# Altium integrated library RCU-0C.IntLib: 1 symbol
Pins are listed as number, name and electrical type; pins without a type are passive.

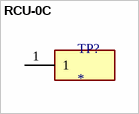
[diagram p0: symbol RCU-0C]

## RCU-0C
designator TP?
MF: {'manufacturer': u'TE Connectivity AMP Connectors'}; MP: RCU-0C; Package: None; Price: None; Value: *; Availability: Unavailable
footprint TP+195X110
pins: 1